# Altium footprint library DO-214AC.PcbLib: 1 footprints
Each footprint in its own frame and in the unit in brackets; x right, y up, seen from the top. Pads: shape width x height; smd on the part's side, far side on the other; paste and mask are expansions set on the pad; w line width, h text height; cw(c..) or ccw(c..) is an arc to the next point about the centre after c.
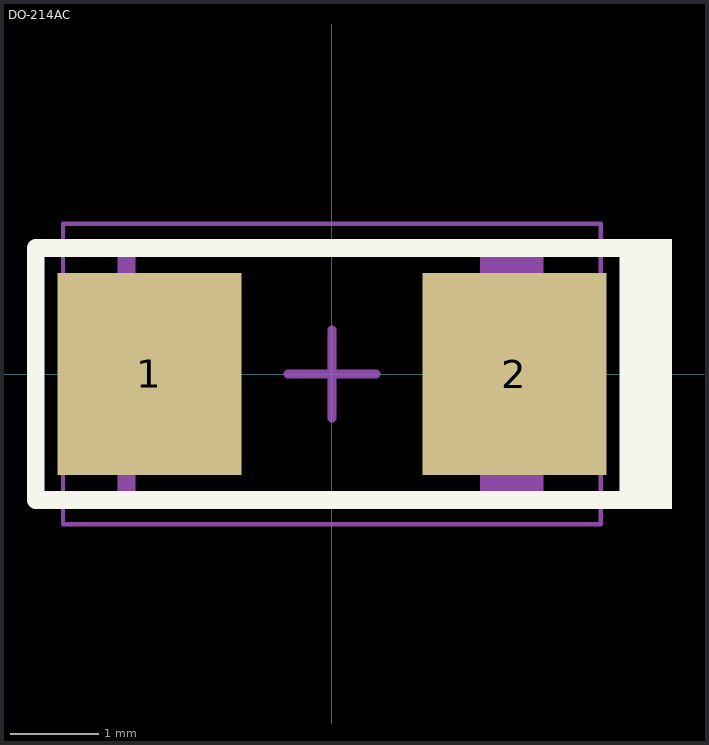
[diagram p0: the footprint, top view; thin cyan lines are the x and y axes]

## DO-214AC [mil]
height 96.46
pads (2):
  rect 82x90 smd: 1(-81.5,0) 2(81.5,0)
Top Overlay:
  rectangle: 132.23,-60.19 151.91,60.19
  lines w7.87: 132.23,-56.25 132.23,56.25 ; 141.73,-56.25 -132.23,-56.25 -132.23,56.25 141.73,56.25
Mechanical 7:
  rectangle: 66.19,-60.19 90.55,60.19
  lines w7.87: 90.55,-56.25 90.55,56.25 ; 91.75,-56.25 -91.75,-56.25 -91.75,56.25 91.75,56.25
Mechanical 15:
  lines w1.97: -120.08,-67.08 -120.08,67.08 120.08,67.08 120.08,-67.08 -120.08,-67.08
  lines w3.94: -19.69,0 19.68,0 ; 0,-19.68 0,19.69
3D body "SMASeries.step": height 92.01, standoff 0, extent -104.02,-55 104.01,55